# EAGLE library part 74HCU04 (library rs41)
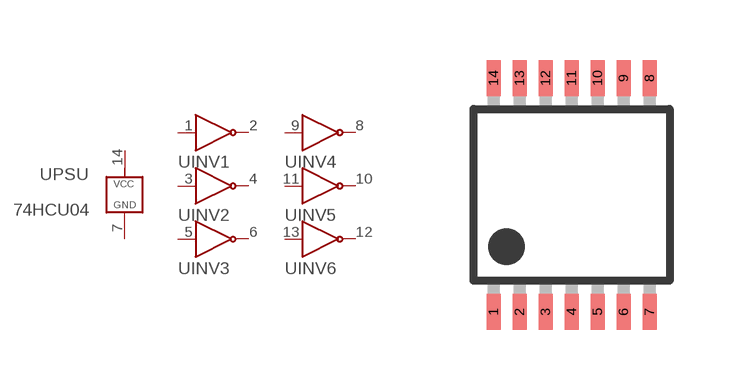
[diagram p10: symbol with the pads of TSSOP14; footprint TSSOP14]

Designator prefix U; gates INV1=INVERTER INV2=INVERTER INV3=INVERTER INV4=INVERTER INV5=INVERTER INV6=INVERTER PSU=PSU

## 74HCU04  [TSSOP14]
1  INV1:A
2  INV1:Y
3  INV2:A
4  INV2:Y
5  INV3:A
6  INV3:Y
7  PSU:GND
8  INV4:Y
9  INV4:A
10  INV5:Y
11  INV5:A
12  INV6:Y
13  INV6:A
14  PSU:VCC

## Footprint TSSOP14 (pad centres in mm)
plastic thin shrink small outline package; 14 leads; body width 4.4 mm SOT402-1 Source: http://www.nxp.com/documents/data_sheet/74ABT125.pdf
smd 0.35 x 0.9: 1 -1.95,-2.925; 2 -1.3,-2.925; 3 -0.65,-2.925; 4 0,-2.925; 5 0.65,-2.925; 6 1.3,-2.925; 7 1.95,-2.925; 8 1.95,2.925; 9 1.3,2.925; 10 0.65,2.925; 11 0,2.925; 12 -0.65,2.925; 13 -1.3,2.925; 14 -1.95,2.925